# EAGLE library part OPA_OPA453 (library akita)
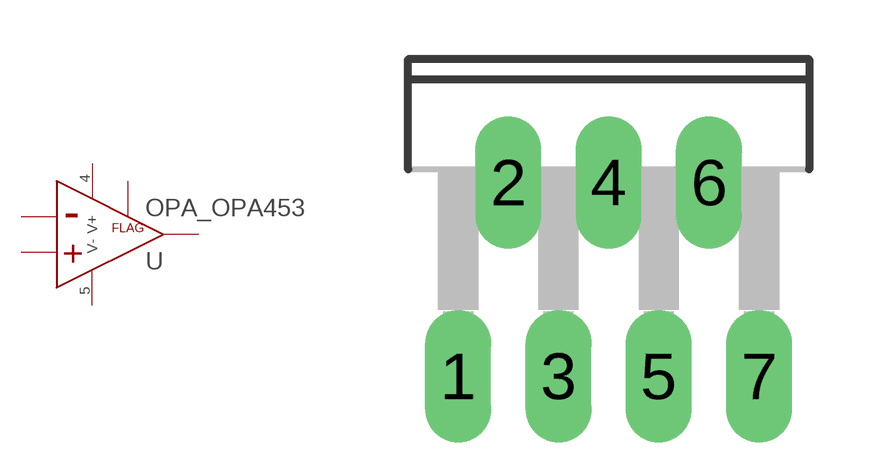
[diagram p16: symbol with the pads of TO220-7; footprint TO220-7]

Designator prefix U

## OPA_OPA453TA-1  [TO220-7]
1  IN+  in
2  IN-  in
3  NC  nc
4  V+  pwr
5  V-  pwr
6  VO  out
7  FLAG  in

## Footprint TO220-7 (pad centres in mm)
Molded Package
drill 1.118 pad 1.626 long: 1 -3.81,-8.036; 2 -2.54,-3.126; 3 -1.27,-8.036; 4 0,-3.126; 5 1.27,-8.036; 6 2.54,-3.126; 7 3.81,-8.036